# EAGLE library part RN4871 (library ds_wireless)
The RN4871 is a small form factor, Bluetooth Low Energy module
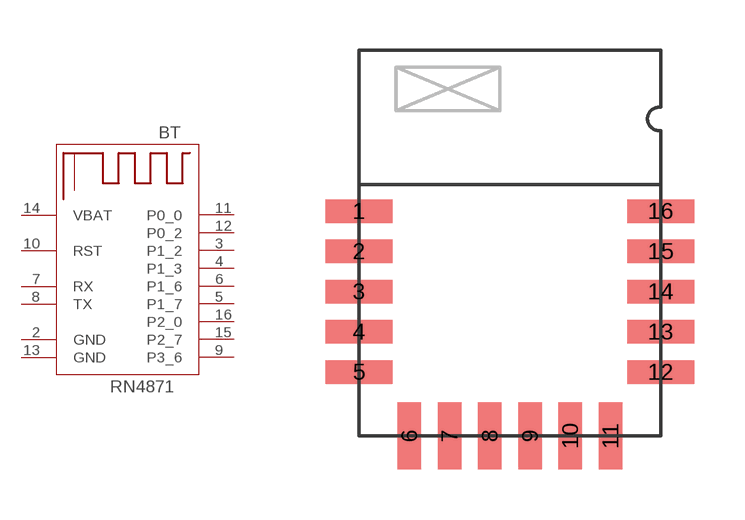
[diagram p1: symbol with the pads of RN4781; footprint RN4781]

Designator prefix BT

## RN4871  [RN4781]
2  GND
3  P1_2
4  P1_3
5  P1_7
6  P1_6
7  RX
8  TX
9  P3_6
10  RST
11  P0_0
12  P0_2
13  GND
14  VBAT
15  P2_7
16  P2_0

## Footprint RN4781 (pad centres in mm)
smd 2 x 0.7: 1 0,6.7; 2 0,5.5; 3 0,4.3; 4 0,3.1; 5 0,1.9; 12 9,1.9; 13 9,3.1; 14 9,4.3; 15 9,5.5; 16 9,6.7
smd 0.7 x 2: 6 1.5,0; 7 2.7,0; 8 3.9,0; 9 5.1,0; 10 6.3,0; 11 7.5,0